# Altium schematic symbol library KAM03CT70J105KH.SchLib: 1 symbol
Pins are listed as number, name and electrical type; pins without a type are passive.

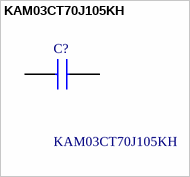
[diagram p0: symbol KAM03CT70J105KH]

## KAM03CT70J105KH
designator C?
Multilayer Ceramic Capacitors MLCC - SMD/SMT 6.3V 1uF X7T 0201 10% AEC-Q200; Manufacturer_Name: Kyocera AVX; Geometry.Height: 0.39mm; Mouser Part Number: 581-KAM03CT70J105KH; Mouser Price/Stock: https://www.mouser.co.uk/ProductDetail/KYOCERA-AVX/KAM03CT70J105KH?qs=amGC7iS6iy9BaDKwbVeMwg%3D%3D; Manufacturer_Part_Number: KAM03CT70J105KH; Datasheet Link: https://spicat.kyocera-avx.com/product/mlcc/chartview/KAM03CT70J105KH/DataSheet/X7T
footprint CAPC0603X39N
pins: 1, 2